# Altium schematic symbol library CAP,Cer,1uF,6.3VDC,X5R,0402.Schlib: 1 symbol
Pins are listed as number, name and electrical type; pins without a type are passive.

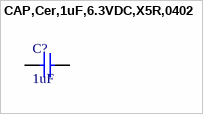
[diagram p0: symbol CAP,Cer,1uF,6.3VDC,X5R,0402]

## CAP,Cer,1uF,6.3VDC,X5R,0402
designator C?, comment 1uF
1µF ±20% 6.3V Ceramic Capacitor X5R 0402 (1005 Metric)
pins: 1, 2